# Altium integrated library TSX-3225_16.0000MF18X-AC3.IntLib: 1 symbol
Pins are listed as number, name and electrical type; pins without a type are passive.

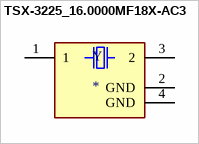
[diagram p0: symbol TSX-3225_16.0000MF18X-AC3]

## TSX-3225_16.0000MF18X-AC3
designator Y
16MHz Â±10ppm Crystal 9pF 60 Ohms 4-SMD, No Lead; MP: TSX-3225 16.0000MF18X-AC3; MF: EPSON; Availability: Unavailable; Package: SMD-4 Epson; SnapEDA_Link: https://www.snapeda.com/parts/TSX-3225%2016.0000MF18X-AC3/EPSON/view-part/105674/?ref=snap; Value: *; Price: None
footprint XTAL_TSX-3225_16.0000MF18X-AC3
pins: 1, 2 GND (power), 3 2, 4 GND (power)